# Altium schematic symbol library DSKY_keyboard.SchLib: 13 symbols
Pins are listed as number, name and electrical type; pins without a type are passive.

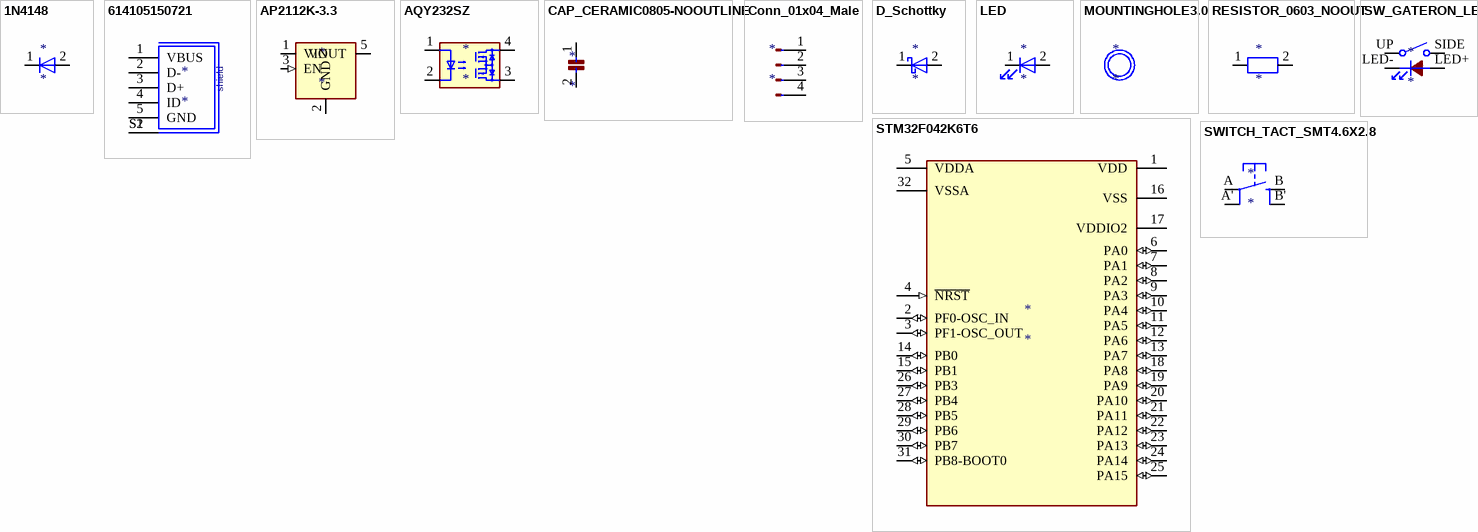
[diagram p0: symbols 1N4148 to SWITCH_TACT_SMT4.6X2.8]

## 1N4148
designator *
pins: 1 K, 2 A

## 614105150721
designator *
pins: 1 VBUS, 2 D-, 3 D+, 4 ID, 5 GND, S1, S2
text: shield

## AP2112K-3.3
designator *
pins: 1 VIN (power), 2 GND (power), 3 EN (in), 4 NC hidden, 5 VOUT (power)

## AQY232SZ
designator *
pins: 1, 2, 3, 4

## CAP_CERAMIC0805-NOOUTLINE
designator *
pins: 1, 2

## Conn_01x04_Male
designator *
pins: 1 Pin_1, 2 Pin_2, 3 Pin_3, 4 Pin_4

## D_Schottky
designator *
pins: 1 K, 2 A

## LED
designator *
pins: 1 K, 2 A

## MOUNTINGHOLE3.0
designator *

## RESISTOR_0603_NOOUT
designator *
pins: 1, 2

## STM32F042K6T6
designator *
pins: 1 VDD (power), 2 PF0-OSC_IN (io), 3 PF1-OSC_OUT (io), 4 ~{NRST} (in), 5 VDDA (power), 6 PA0 (io), 7 PA1 (io), 8 PA2 (io), 9 PA3 (io), 10 PA4 (io), 11 PA5 (io), 12 PA6 (io), 13 PA7 (io), 14 PB0 (io), 15 PB1 (io), 16 VSS (power), 17 VDDIO2 (power), 18 PA8 (io), 19 PA9 (io), 20 PA10 (io), 21 PA11 (io), 22 PA12 (io), 23 PA13 (io), 24 PA14 (io), 25 PA15 (io), 26 PB3 (io), 27 PB4 (io), 28 PB5 (io), 29 PB6 (io), 30 PB7 (io), 31 PB8-BOOT0 (io), 32 VSSA (power)

## SW_GATERON_LED
designator *
pins: LED+, LED-, SIDE, UP

## SWITCH_TACT_SMT4.6X2.8
designator *
pins: A P, A' P1, B S, B' S1